# Altium footprint library Vibrador.PcbLib: 1 footprints
Each footprint in its own frame and in the unit in brackets; x right, y up, seen from the top. Pads: shape width x height; smd on the part's side, far side on the other; paste and mask are expansions set on the pad; w line width, h text height; cw(c..) or ccw(c..) is an arc to the next point about the centre after c.
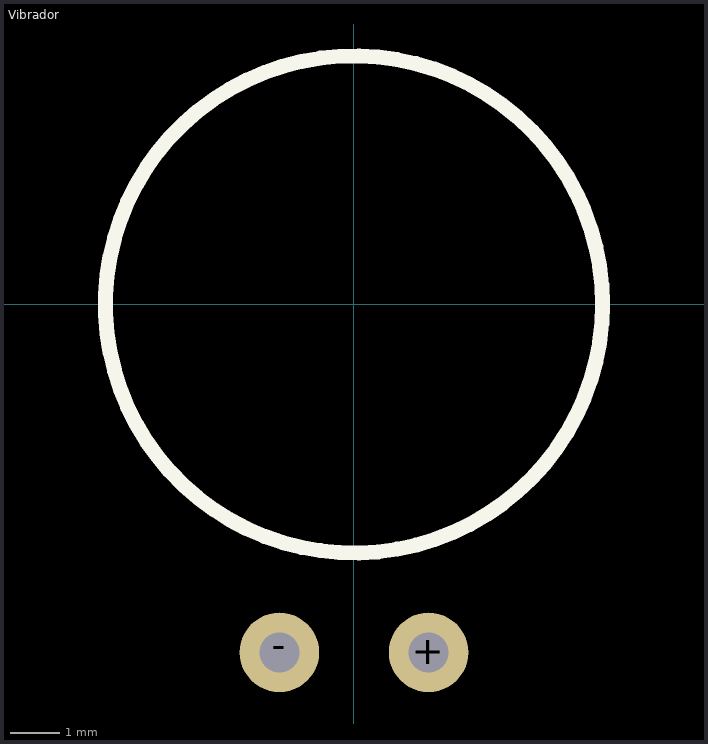
[diagram p0: the footprint, top view; thin cyan lines are the x and y axes]

## Vibrador [mm] "Motor 10 x 2.5 vibrador de 3V"
pads (2):
  round 1.6 hole 0.8: +(1.5,-7) -(-1.5,-7)
Top Overlay:
  circle w0.3: c0,0 r5
3D body: height 2.5, standoff 0, extent -5,-5 5,5